# Altium footprint library 24853962.PcbLib: 1 footprints
Each footprint in its own frame and in the unit in brackets; x right, y up, seen from the top. Pads: shape width x height; smd on the part's side, far side on the other; paste and mask are expansions set on the pad; w line width, h text height; cw(c..) or ccw(c..) is an arc to the next point about the centre after c.
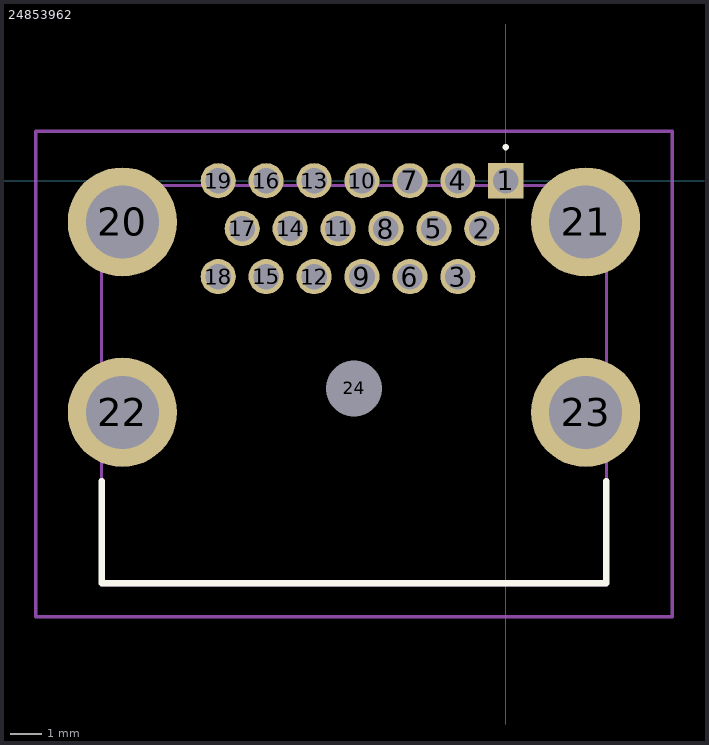
[diagram p0: the footprint, top view; thin cyan lines are the x and y axes]

## 24853962 [mm]
pads (24):
  rect 1.1x1.1 hole 0.8: 1(0,0)
  round 1.1 hole 0.8: 2(-0.75,-1.5) 3(-1.5,-3) 4(-1.5,0) 5(-2.25,-1.5) 6(-3,-3) 7(-3,0) 8(-3.75,-1.5) 9(-4.5,-3) 10(-4.5,0) 11(-5.25,-1.5) 12(-6,-3) 13(-6,0) 14(-6.75,-1.5) 15(-7.5,-3) 16(-7.5,0) 17(-8.25,-1.5) 18(-9,-3) 19(-9,0)
  round 3.42 hole 2.28: 20(-12,-1.29) 21(2.5,-1.29) 22(-12,-7.25) 23(2.5,-7.25)
  round 0.875 hole 1.75 unplated: 24(-4.75,-6.5)
Top Overlay:
  lines w0.1: 0,1 0,1 ; 0,1 ccw(c0,1.05) 0,1.1 ; 0,1 cw(c0,1.05) 0,1.1 ; 0,1.1 0,1.1
  lines w0.2: -12.65,-9.4 -12.65,-12.6 3.15,-12.6 3.15,-9.4
Mechanical 15:
  lines w0.1: -12.65,-12.65 3.15,-12.65 3.15,-0.15 -12.65,-0.15 -12.65,-12.65
Mechanical 20:
  lines w0.1: -14.71,-13.65 5.21,-13.65 5.21,1.55 -14.71,1.55 -14.71,-13.65